# EAGLE library part PCM2707-CPJT (library Nick Firmani)
Stereo Audio DAC with Full Speed USB Interface, Single-Ended Headphone Output, and S/PDIF
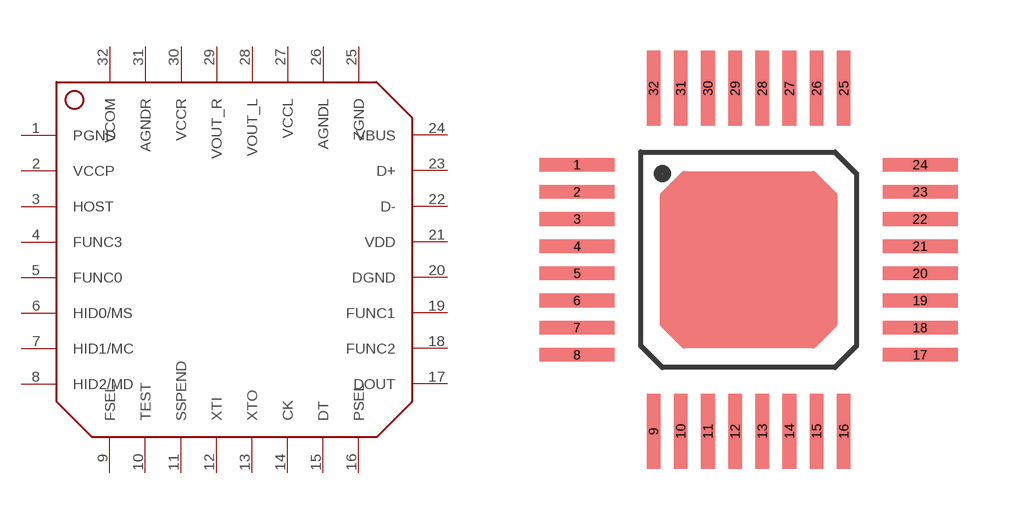
[diagram p5: symbol with the pads of QFP-32; footprint QFP-32]

Designator prefix -

## PCM2707-CPJT  [QFP-32]
1  PGND
2  VCCP
3  HOST
4  FUNC3
5  FUNC0
6  HID0/MS
7  HID1/MC
8  HID2/MD
9  FSEL
10  TEST
11  SSPEND
12  XTI
13  XTO
14  CK
15  DT
16  PSEL
17  DOUT
18  FUNC2
19  FUNC1
20  DGND
21  VDD
22  D-
23  D+
24  VBUS
25  ZGND
26  AGNDL
27  VCCL
28  VOUT_L
29  VOUT_R
30  VCCR
31  AGNDR
32  VCOM

## Footprint QFP-32 (pad centres in mm)
Quad Flat Package
smd 2.2 x 0.4: 1 -5.05,2.8; 2 -5.05,2; 3 -5.05,1.2; 4 -5.05,0.4; 5 -5.05,-0.4; 6 -5.05,-1.2; 7 -5.05,-2; 8 -5.05,-2.8; 17 5.05,-2.8; 18 5.05,-2; 19 5.05,-1.2; 20 5.05,-0.4; 21 5.05,0.4; 22 5.05,1.2; 23 5.05,2; 24 5.05,2.8
smd 0.4 x 2.2: 9 -2.8,-5.05; 10 -2,-5.05; 11 -1.2,-5.05; 12 -0.4,-5.05; 13 0.4,-5.05; 14 1.2,-5.05; 15 2,-5.05; 16 2.8,-5.05; 25 2.8,5.05; 26 2,5.05; 27 1.2,5.05; 28 0.4,5.05; 29 -0.4,5.05; 30 -1.2,5.05; 31 -2,5.05; 32 -2.8,5.05